# Altium footprint library TSOT-23-6.PcbLib: 1 footprints
Each footprint in its own frame and in the unit in brackets; x right, y up, seen from the top. Pads: shape width x height; smd on the part's side, far side on the other; paste and mask are expansions set on the pad; w line width, h text height; cw(c..) or ccw(c..) is an arc to the next point about the centre after c.
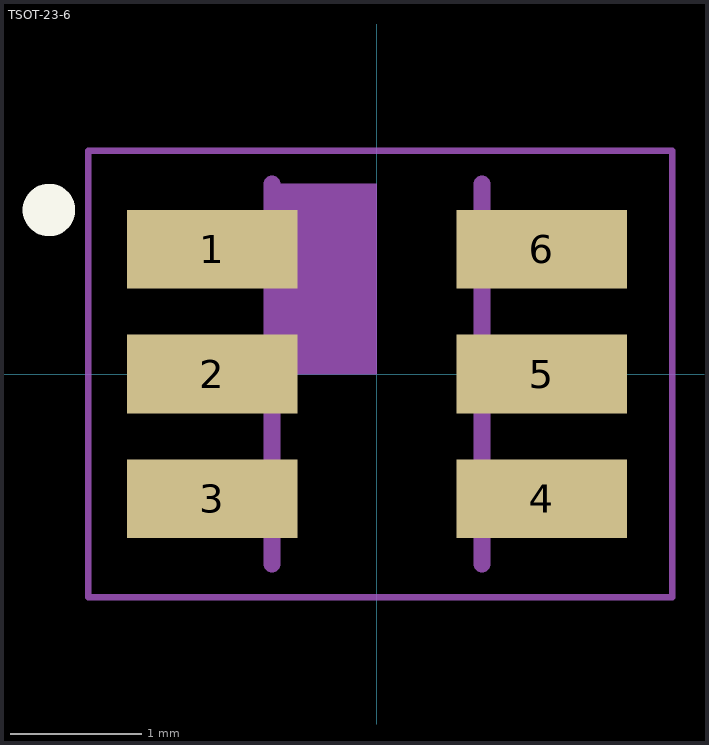
[diagram p0: the footprint, top view; thin cyan lines are the x and y axes]

## TSOT-23-6 [mm] "SOT-23-6 Thin"
pads (6):
  rect 1.3x0.6 smd: 1(-1.255,0.95) 2(-1.255,0) 3(-1.255,-0.95) 4(1.255,-0.95) 5(1.255,0) 6(1.255,0.95)
Top Overlay:
  circle w0.2: c-2.5,1.25 r0.1
Mechanical 13:
  region: 0,0 -0.8,0 -0.8,1.45 0,1.45
  lines w0.127: -0.8,-1.45 -0.8,1.45 ; 0.8,-1.45 0.8,1.45
Mechanical 15:
  lines w0.05: -2.2,-1.7 2.25,-1.7 2.25,1.7 -2.2,1.7 -2.2,-1.7
3D body "TPS563200DDCR.stp": height 0.97, standoff 0, extent -1.4,-1.45 1.4,1.45